# EAGLE library part MAX5984 (library temp_library)
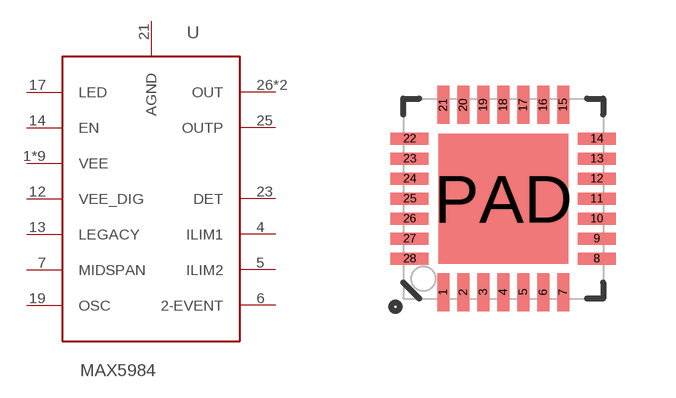
[diagram p2: symbol with the pads of TQFN-28; footprint TQFN-28]

Designator prefix -

## MAX5984 (VARIANT: C)  [TQFN-28]
1  VEE
2  VEE
3  VEE
4  ILIM1
5  ILIM2
6  2-EVENT
7  MIDSPAN
8  VEE
9  VEE
10  VEE
11  VEE
12  VEE_DIG
13  LEGACY
14  EN
15  VEE
17  LED
19  OSC
21  AGND
23  DET
25  OUTP
26  OUT
27  OUT
PAD  VEE

## Footprint TQFN-28 (pad centres in mm)
smd 0.3 x 0.95: 1 -1.5,-2.34; 2 -1,-2.34; 3 -0.5,-2.34; 4 0,-2.34; 5 0.5,-2.34; 6 1,-2.34; 7 1.5,-2.34; 15 1.5,2.34; 16 1,2.34; 17 0.5,2.34; 18 0,2.34; 19 -0.5,2.34; 20 -1,2.34; 21 -1.5,2.34
smd 0.95 x 0.3: 8 2.34,-1.5; 9 2.34,-1; 10 2.34,-0.5; 11 2.34,0; 12 2.34,0.5; 13 2.34,1; 14 2.34,1.5; 22 -2.34,1.5; 23 -2.34,1; 24 -2.34,0.5; 25 -2.34,0; 26 -2.34,-0.5; 27 -2.34,-1; 28 -2.34,-1.5
smd 3.25 x 3.25: PAD 0,0